# Altium schematic symbol library mosfet_n_3s_1g_4d.SchLib: 1 symbol
Pins are listed as number, name and electrical type; pins without a type are passive.

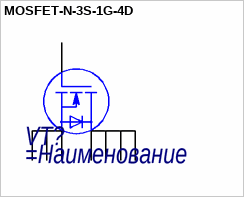
[diagram p0: symbol MOSFET-N-3S-1G-4D]

## MOSFET-N-3S-1G-4D
designator VT?
=Описание
pins: 1 S, 2 S, 3   , 4 G, 5 D, 6 D, 7 D, 8 D